# Altium footprint library Jumper.PcbLib: 32 footprints (part 1 of 2)
Each footprint in its own frame and in the unit in brackets; x right, y up, seen from the top. Pads: shape width x height; smd on the part's side, far side on the other; paste and mask are expansions set on the pad; w line width, h text height; cw(c..) or ccw(c..) is an arc to the next point about the centre after c.
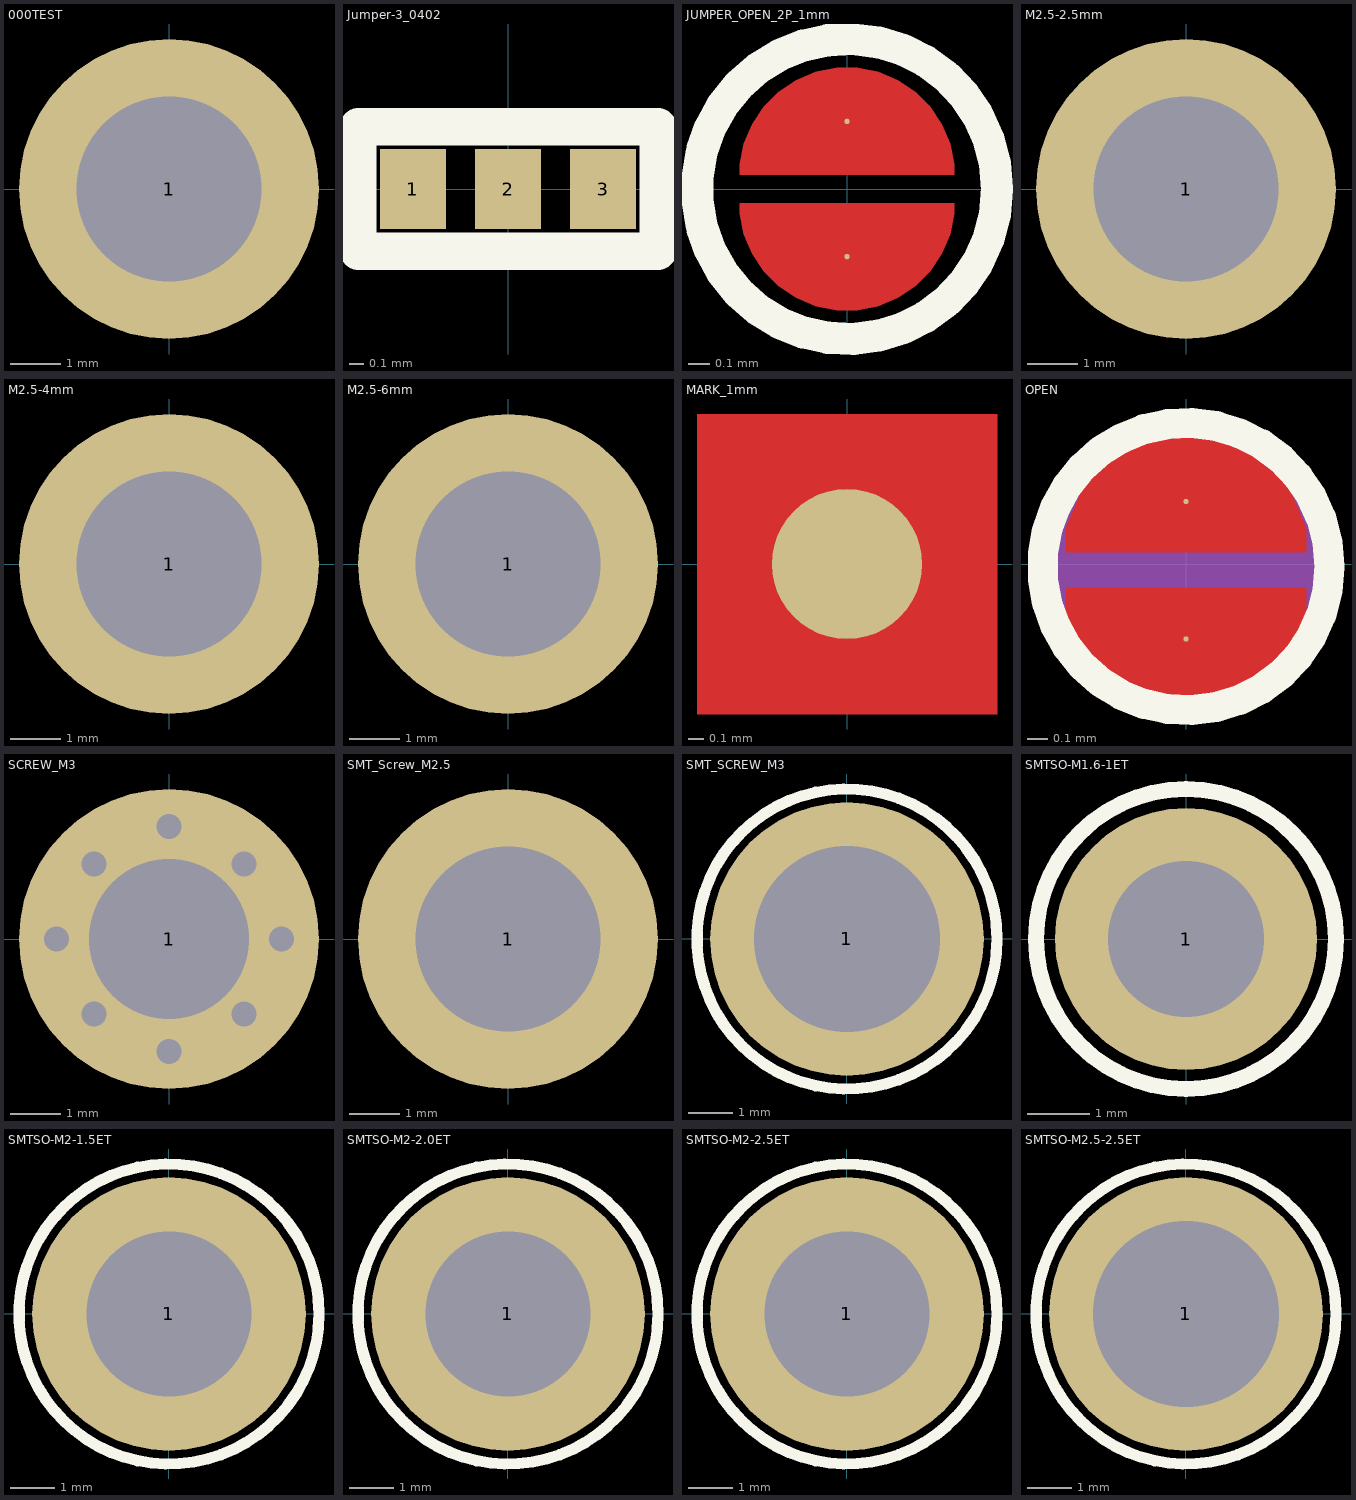
[diagram p0: the footprints below, top view; thin cyan lines are the x and y axes]

## 000TEST [mm]
pads (1):
  round 6 hole 3.7 paste-100: 1(0,0)
Top Paste:
  region: 0.261,-2.938 0.518,-2.916 1.015,-2.782 1.482,-2.564 1.904,-2.268 2.268,-1.904 2.564,-1.482 2.782,-1.015 2.916,-0.518 2.938,-0.261 2.939,-0.261 1.882,-0.261 1.855,-0.413 1.764,-0.706 1.627,-0.981 1.448,-1.231 1.231,-1.448 0.981,-1.627 0.706,-1.764 0.413,-1.855 0.261,-1.882
  region: -0.261,-2.938 -0.518,-2.916 -1.015,-2.782 -1.482,-2.564 -1.904,-2.268 -2.268,-1.904 -2.564,-1.482 -2.782,-1.015 -2.916,-0.518 -2.938,-0.261 -2.939,-0.261 -1.882,-0.261 -1.855,-0.413 -1.764,-0.706 -1.627,-0.981 -1.448,-1.231 -1.231,-1.448 -0.981,-1.627 -0.706,-1.764 -0.413,-1.855 -0.261,-1.882
  region: -0.261,2.938 -0.518,2.916 -1.015,2.782 -1.482,2.564 -1.904,2.268 -2.268,1.904 -2.564,1.482 -2.782,1.015 -2.916,0.518 -2.938,0.261 -2.939,0.261 -1.882,0.261 -1.855,0.413 -1.764,0.706 -1.627,0.981 -1.448,1.231 -1.231,1.448 -0.981,1.627 -0.706,1.764 -0.413,1.855 -0.261,1.882
  region: 0.261,2.938 0.518,2.916 1.015,2.782 1.482,2.564 1.904,2.268 2.268,1.904 2.564,1.482 2.782,1.015 2.916,0.518 2.938,0.261 2.939,0.261 1.882,0.261 1.855,0.413 1.764,0.706 1.627,0.981 1.448,1.231 1.231,1.448 0.981,1.627 0.706,1.764 0.413,1.855 0.261,1.882
  lines w0.025: -2.938,-0.261 ccw(c0,0) -0.261,-2.938 -0.261,-1.882 cw(c0,0) -1.882,-0.261 -2.939,-0.261 ; -2.938,0.261 cw(c0,0) -0.261,2.938 -0.261,1.882 ccw(c0,0) -1.882,0.261 -2.939,0.261 ; 0.261,-2.938 ccw(c0,0) 2.938,-0.261 1.882,-0.261 cw(c0,0) 0.261,-1.882 0.261,-2.939 ; 0.261,1.882 cw(c0,0) 1.882,0.261 2.939,0.261 ccw(c0,0) 0.261,2.938 0.261,1.882

## Jumper-3_0402 [mm]
pads (3):
  rect 0.45x0.55 smd: 1(-0.65,0) 2(0,0) 3(0.65,0)
Top Overlay:
  lines w0.254: -1.025,-0.425 1.025,-0.425 1.025,0.425 -1.025,0.425 -1.025,-0.425

## JUMPER_OPEN_2P_1mm [mil]
pads (2):
  round 1 smd: 1(0,12.42) 2(0,-12.42)
Top Layer:
  region: -19.68,2.58 19.68,2.58 19.68,4.52 18.93,8.32 17.44,11.9 15.29,15.13 12.55,17.87 9.32,20.02 5.74,21.51 1.94,22.26 -1.94,22.26 -5.74,21.51 -9.32,20.02 -12.55,17.87 -15.29,15.13 -17.44,11.9 -18.93,8.32 -19.68,4.52
  region: 19.68,-2.58 -19.68,-2.58 -19.68,-4.52 -18.93,-8.32 -17.44,-11.9 -15.29,-15.13 -12.55,-17.87 -9.32,-20.02 -5.74,-21.51 -1.94,-22.26 1.94,-22.26 5.74,-21.51 9.32,-20.02 12.55,-17.87 15.29,-15.13 17.44,-11.9 18.93,-8.32 19.68,-4.52
Top Overlay:
  circle w5.9: c0,0 r27.56

## M2.5-2.5mm [mm] "SMT Steel Spacer, M2.5 Thread Internal, 6mm"
height 6
pads (1):
  round 6 / inner round 0 / far side round 0 hole 3.7 paste-403.566: 1(0,0)
Top Paste:
  drawing of 4 lines, arcs and shapes, not listed
Mechanical 13:
  circle w0.12: c0,0 r2.55
3D body "M2_5x2_5.stp": height 2.5, standoff -1.4, extent -2.55,-2.6 2.55,2.5

## M2.5-4mm [mm] "SMT Steel Spacer, M2.5 Thread Internal, 4mm"
height 6
pads (1):
  round 6 / inner round 0 / far side round 0 hole 3.7 paste-403.566: 1(0,0)
Top Paste:
  drawing of 4 lines, arcs and shapes, not listed
Mechanical 13:
  circle w0.12: c0,0 r2.55
3D body "9774040151.stp": height 4, standoff -1.4, extent -2.55,-2.545 2.53,2.545

## M2.5-6mm [mm] "SMT Steel Spacer, M2.5 Thread Internal, 6mm"
height 6
pads (1):
  round 6 / inner round 0 / far side round 0 hole 3.7 paste-403.566: 1(0,0)
Top Paste:
  drawing of 4 lines, arcs and shapes, not listed
Mechanical 13:
  circle w0.12: c0,0 r2.55
3D body "9774060151.stp": height 6, standoff -1.4, extent -2.55,-2.545 2.53,2.545

## MARK_1mm [mm]
pads (1):
  round 1 smd mask+0.5: ""(0,0)
Top Layer:
  pour cut-out: -1,-1 1,-1 1,1 -1,1

## OPEN [mil] "OPEN"
pads (2):
  oct 1x1 smd: 1(0,-14.7) 2(0,12.3)
Top Layer:
  region: -23.6,-4.7 23.6,-4.7 23.6,-9.39 20.01,-18.07 13.37,-24.71 4.69,-28.3 -4.69,-28.3 -13.37,-24.71 -20.01,-18.07 -23.6,-9.39
  region: -23.6,-4.7 23.6,-4.7 23.6,-9.39 20.01,-18.07 13.37,-24.71 4.69,-28.3 -4.69,-28.3 -13.37,-24.71 -20.01,-18.07 -23.6,-9.39
  region: 23.6,2.3 -23.6,2.3 -23.6,6.99 -20.01,15.67 -13.37,22.31 -4.69,25.9 4.69,25.9 13.37,22.31 20.01,15.67 23.6,6.99
  region: 23.6,2.3 -23.6,2.3 -23.6,6.99 -20.01,15.67 -13.37,22.31 -4.69,25.9 4.69,25.9 13.37,22.31 20.01,15.67 23.6,6.99
Top Overlay:
  circle w5.9: c0,-0.5 r28.2
Top Paste:
  region: -23.6,-4.7 23.6,-4.7 23.6,-9.39 20.01,-18.07 13.37,-24.71 4.69,-28.3 -4.69,-28.3 -13.37,-24.71 -20.01,-18.07 -23.6,-9.39
  region: -23.6,-4.7 23.6,-4.7 23.6,-9.39 20.01,-18.07 13.37,-24.71 4.69,-28.3 -4.69,-28.3 -13.37,-24.71 -20.01,-18.07 -23.6,-9.39
  region: 23.6,2.3 -23.6,2.3 -23.6,6.99 -20.01,15.67 -13.37,22.31 -4.69,25.9 4.69,25.9 13.37,22.31 20.01,15.67 23.6,6.99
  region: 23.6,2.3 -23.6,2.3 -23.6,6.99 -20.01,15.67 -13.37,22.31 -4.69,25.9 4.69,25.9 13.37,22.31 20.01,15.67 23.6,6.99
Top Solder:
  region: -23.6,-4.7 23.6,-4.7 23.6,-9.39 20.01,-18.07 13.37,-24.71 4.69,-28.3 -4.69,-28.3 -13.37,-24.71 -20.01,-18.07 -23.6,-9.39
  region: -23.6,-4.7 23.6,-4.7 23.6,-9.39 20.01,-18.07 13.37,-24.71 4.69,-28.3 -4.69,-28.3 -13.37,-24.71 -20.01,-18.07 -23.6,-9.39
  region: 23.6,2.3 -23.6,2.3 -23.6,6.99 -20.01,15.67 -13.37,22.31 -4.69,25.9 4.69,25.9 13.37,22.31 20.01,15.67 23.6,6.99
  region: 23.6,2.3 -23.6,2.3 -23.6,6.99 -20.01,15.67 -13.37,22.31 -4.69,25.9 4.69,25.9 13.37,22.31 20.01,15.67 23.6,6.99
Top 3D Body:
  region: 0,29.45 7.62,28.45 14.73,25.51 20.83,20.83 25.51,14.73 28.45,7.62 29.45,0 28.45,-7.62 25.51,-14.73 20.83,-20.83 14.73,-25.51 7.62,-28.45 0,-29.45 -7.62,-28.45 -14.73,-25.51 -20.83,-20.83 -25.51,-14.73 -28.45,-7.62 -29.45,0 -28.45,7.62 -25.51,14.73 -20.83,20.83 -14.73,25.51 -7.62,28.45
Mechanical 19:
  text "2" at 0,6.7 h14
  text "1" at 0,-20.3 h14
Top Assembly:
  dashed: 0,29.45 7.62,28.45 14.73,25.51 20.83,20.83 25.51,14.73 28.45,7.62 29.45,0 28.45,-7.62 25.51,-14.73 20.83,-20.83 14.73,-25.51 7.62,-28.45 0,-29.45 -7.62,-28.45 -14.73,-25.51 -20.83,-20.83 -25.51,-14.73 -28.45,-7.62 -29.45,0 -28.45,7.62 -25.51,14.73 -20.83,20.83 -14.73,25.51 -7.62,28.45
  text ".Designator" at -19.5,-3.34 h10
  text "JM" at -5,-8 h10
3D body: height 150, standoff 0, extent -29.45,-29.45 29.45,29.45

## SCREW_M3 [mm]
pads (1):
  round 6 hole 3.2: 1(0,0)
via -1.5,-1.5 diameter 0.8 hole 0.5
via 1.5,-1.5 diameter 0.8 hole 0.5
via 1.5,1.5 diameter 0.8 hole 0.5
via -1.5,1.5 diameter 0.8 hole 0.5
via -2.25,0 diameter 0.8 hole 0.5
via 0,-2.25 diameter 0.8 hole 0.5
via 0,2.25 diameter 0.8 hole 0.5
via 2.25,0 diameter 0.8 hole 0.5

## SMT_Screw_M2.5 [mm]
pads (1):
  round 6 hole 3.7: 1(0,0)

## SMT_SCREW_M3 [mm] "SMT_SCREW_M3"
pads (1):
  round 6.2 hole 4.22 paste-1: 1(0,0)
Top Overlay:
  circle w0.254: c0,0 r3.4
Top Paste:
  region: -3.038,-0.266 -3.015,-0.532 -2.877,-1.047 -2.651,-1.531 -2.345,-1.968 -1.968,-2.345 -1.531,-2.651 -1.047,-2.877 -0.532,-3.015 -0.266,-3.038 -0.266,-2.144 -0.442,-2.114 -0.784,-2.013 -1.105,-1.856 -1.396,-1.648 -1.648,-1.396 -1.856,-1.105 -2.012,-0.785 -2.114,-0.442 -2.144,-0.266
  region: 0.266,-3.038 0.532,-3.015 1.047,-2.877 1.531,-2.651 1.968,-2.345 2.345,-1.968 2.651,-1.531 2.877,-1.047 3.015,-0.532 3.038,-0.266 2.144,-0.266 2.114,-0.442 2.013,-0.784 1.856,-1.105 1.648,-1.396 1.396,-1.648 1.105,-1.856 0.785,-2.012 0.442,-2.114 0.266,-2.144
  region: -0.266,3.038 -0.532,3.015 -1.047,2.877 -1.531,2.651 -1.968,2.345 -2.345,1.968 -2.651,1.531 -2.877,1.047 -3.015,0.532 -3.038,0.266 -2.144,0.266 -2.114,0.442 -2.013,0.784 -1.856,1.105 -1.648,1.396 -1.396,1.648 -1.105,1.856 -0.785,2.012 -0.442,2.114 -0.266,2.144
  region: 0.266,3.038 0.532,3.015 1.047,2.877 1.531,2.651 1.968,2.345 2.345,1.968 2.651,1.531 2.877,1.047 3.015,0.532 3.038,0.266 2.144,0.266 2.114,0.442 2.013,0.784 1.856,1.105 1.648,1.396 1.396,1.648 1.105,1.856 0.785,2.012 0.442,2.114 0.266,2.144
  lines w0.025: -2.144,-0.266 ccw(c0,0) -0.266,-2.144 -0.266,-3.038 cw(c0,0) -3.038,-0.266 -2.144,-0.266 ; -0.266,2.144 ccw(c0,0) -2.144,0.266 -3.038,0.266 cw(c0,0) -0.266,3.038 -0.266,2.144 ; 0.266,-2.144 0.266,-3.038 ccw(c0,0) 3.038,-0.266 2.144,-0.266 cw(c0,0) 0.266,-2.144 ; 0.266,2.144 0.266,3.038 cw(c0,0) 3.038,0.266 2.144,0.266 ccw(c0,0) 0.266,2.144

## SMTSO-M1.6-1ET [mm] "SMTSO-M2.5-2.5ET"
pads (1):
  round 4.19 hole 2.5 paste-1 mask+0.102: 1(0,0)
Top Overlay:
  circle w0.254: c0,0 r2.4
Top Paste:
  region: 0.2,-1.99 0.2,-1.284 0.201,-1.284 0.302,-1.265 0.496,-1.202 0.678,-1.109 0.844,-0.989 0.988,-0.845 1.108,-0.679 1.201,-0.497 1.264,-0.303 1.284,-0.203 1.99,-0.203 1.972,-0.373 1.88,-0.704 1.733,-1.014 1.535,-1.294 1.292,-1.536 1.011,-1.734 0.701,-1.881 0.371,-1.973
  region: 1.99,0.2 1.284,0.2 1.284,0.201 1.265,0.302 1.202,0.496 1.109,0.678 0.989,0.844 0.845,0.988 0.679,1.108 0.497,1.201 0.303,1.264 0.203,1.284 0.203,1.99 0.373,1.972 0.704,1.88 1.014,1.733 1.294,1.535 1.536,1.292 1.734,1.011 1.881,0.701 1.973,0.371
  region: -0.2,1.99 -0.2,1.284 -0.201,1.284 -0.302,1.265 -0.496,1.202 -0.678,1.109 -0.844,0.989 -0.988,0.845 -1.108,0.679 -1.201,0.497 -1.264,0.303 -1.284,0.203 -1.99,0.203 -1.972,0.373 -1.88,0.704 -1.733,1.014 -1.535,1.294 -1.292,1.536 -1.011,1.734 -0.701,1.881 -0.371,1.973
  region: -1.99,-0.2 -1.284,-0.2 -1.284,-0.201 -1.265,-0.302 -1.202,-0.496 -1.109,-0.678 -0.989,-0.844 -0.845,-0.988 -0.679,-1.108 -0.497,-1.201 -0.303,-1.264 -0.203,-1.284 -0.203,-1.99 -0.373,-1.972 -0.704,-1.88 -1.014,-1.733 -1.294,-1.535 -1.536,-1.292 -1.734,-1.011 -1.881,-0.701 -1.973,-0.371
  lines w0.025: -1.284,-0.201 ccw(c0,0) -0.203,-1.284 -0.203,-1.99 cw(c0,0) -1.99,-0.2 -1.284,-0.2 ; -0.201,1.284 ccw(c0,0) -1.284,0.203 -1.99,0.203 cw(c0,0) -0.2,1.99 -0.2,1.284 ; 0.2,-1.284 0.2,-1.99 ccw(c0,0) 1.99,-0.203 1.284,-0.203 cw(c0,0) 0.201,-1.284 ; 1.284,0.2 1.99,0.2 ccw(c0,0) 0.203,1.99 0.203,1.284 cw(c0,0) 1.284,0.201

## SMTSO-M2-1.5ET [mm] "SMTSO-M2-1.5ET"
pads (1):
  round 6.2 hole 3.73 paste-1: 1(0,0)
Top Overlay:
  circle w0.254: c0,0 r3.4
Top Paste:
  region: -3.038,-0.266 -3.015,-0.532 -2.877,-1.047 -2.651,-1.531 -2.345,-1.968 -1.968,-2.345 -1.531,-2.651 -1.047,-2.877 -0.532,-3.015 -0.266,-3.038 -0.266,-2.144 -0.442,-2.114 -0.784,-2.013 -1.105,-1.856 -1.396,-1.648 -1.648,-1.396 -1.856,-1.105 -2.012,-0.785 -2.114,-0.442 -2.144,-0.266
  region: 0.266,-3.038 0.532,-3.015 1.047,-2.877 1.531,-2.651 1.968,-2.345 2.345,-1.968 2.651,-1.531 2.877,-1.047 3.015,-0.532 3.038,-0.266 2.144,-0.266 2.114,-0.442 2.013,-0.784 1.856,-1.105 1.648,-1.396 1.396,-1.648 1.105,-1.856 0.785,-2.012 0.442,-2.114 0.266,-2.144
  region: -0.266,3.038 -0.532,3.015 -1.047,2.877 -1.531,2.651 -1.968,2.345 -2.345,1.968 -2.651,1.531 -2.877,1.047 -3.015,0.532 -3.038,0.266 -2.144,0.266 -2.114,0.442 -2.013,0.784 -1.856,1.105 -1.648,1.396 -1.396,1.648 -1.105,1.856 -0.785,2.012 -0.442,2.114 -0.266,2.144
  region: 0.266,3.038 0.532,3.015 1.047,2.877 1.531,2.651 1.968,2.345 2.345,1.968 2.651,1.531 2.877,1.047 3.015,0.532 3.038,0.266 2.144,0.266 2.114,0.442 2.013,0.784 1.856,1.105 1.648,1.396 1.396,1.648 1.105,1.856 0.785,2.012 0.442,2.114 0.266,2.144
  lines w0.025: -2.144,-0.266 ccw(c0,0) -0.266,-2.144 -0.266,-3.038 cw(c0,0) -3.038,-0.266 -2.144,-0.266 ; -0.266,2.144 ccw(c0,0) -2.144,0.266 -3.038,0.266 cw(c0,0) -0.266,3.038 -0.266,2.144 ; 0.266,-2.144 0.266,-3.038 ccw(c0,0) 3.038,-0.266 2.144,-0.266 cw(c0,0) 0.266,-2.144 ; 0.266,2.144 0.266,3.038 cw(c0,0) 3.038,0.266 2.144,0.266 ccw(c0,0) 0.266,2.144
3D body: height 1.5, standoff 0, extent -2.78,-2.78 2.78,2.78

## SMTSO-M2-2.0ET [mm] "SMTSO-M2-2.0ET"
pads (1):
  round 6.2 hole 3.73 paste-1: 1(0,0)
Top Overlay:
  circle w0.254: c0,0 r3.4
Top Paste:
  region: 0.266,3.038 0.532,3.015 1.047,2.877 1.531,2.651 1.968,2.345 2.345,1.968 2.651,1.531 2.877,1.047 3.015,0.532 3.038,0.266 2.144,0.266 2.114,0.442 2.013,0.784 1.856,1.105 1.648,1.396 1.396,1.648 1.105,1.856 0.785,2.012 0.442,2.114 0.266,2.144
  region: -0.266,3.038 -0.532,3.015 -1.047,2.877 -1.531,2.651 -1.968,2.345 -2.345,1.968 -2.651,1.531 -2.877,1.047 -3.015,0.532 -3.038,0.266 -2.144,0.266 -2.114,0.442 -2.013,0.784 -1.856,1.105 -1.648,1.396 -1.396,1.648 -1.105,1.856 -0.785,2.012 -0.442,2.114 -0.266,2.144
  region: 0.266,-3.038 0.532,-3.015 1.047,-2.877 1.531,-2.651 1.968,-2.345 2.345,-1.968 2.651,-1.531 2.877,-1.047 3.015,-0.532 3.038,-0.266 2.144,-0.266 2.114,-0.442 2.013,-0.784 1.856,-1.105 1.648,-1.396 1.396,-1.648 1.105,-1.856 0.785,-2.012 0.442,-2.114 0.266,-2.144
  region: -3.038,-0.266 -3.015,-0.532 -2.877,-1.047 -2.651,-1.531 -2.345,-1.968 -1.968,-2.345 -1.531,-2.651 -1.047,-2.877 -0.532,-3.015 -0.266,-3.038 -0.266,-2.144 -0.442,-2.114 -0.784,-2.013 -1.105,-1.856 -1.396,-1.648 -1.648,-1.396 -1.856,-1.105 -2.012,-0.785 -2.114,-0.442 -2.144,-0.266
  lines w0.025: -2.144,-0.266 ccw(c0,0) -0.266,-2.144 -0.266,-3.038 cw(c0,0) -3.038,-0.266 -2.144,-0.266 ; -0.266,2.144 ccw(c0,0) -2.144,0.266 -3.038,0.266 cw(c0,0) -0.266,3.038 -0.266,2.144 ; 0.266,-2.144 0.266,-3.038 ccw(c0,0) 3.038,-0.266 2.144,-0.266 cw(c0,0) 0.266,-2.144 ; 0.266,2.144 0.266,3.038 cw(c0,0) 3.038,0.266 2.144,0.266 ccw(c0,0) 0.266,2.144
3D body: height 2, standoff 0, extent -2.78,-2.78 2.78,2.78

## SMTSO-M2-2.5ET [mm] "SMTSO-M2-2.5ET"
pads (1):
  round 6.2 hole 3.73 paste-1: 1(0,0)
Top Overlay:
  circle w0.254: c0,0 r3.4
Top Paste:
  region: 0.266,3.038 0.532,3.015 1.047,2.877 1.531,2.651 1.968,2.345 2.345,1.968 2.651,1.531 2.877,1.047 3.015,0.532 3.038,0.266 2.144,0.266 2.114,0.442 2.013,0.784 1.856,1.105 1.648,1.396 1.396,1.648 1.105,1.856 0.785,2.012 0.442,2.114 0.266,2.144
  region: -0.266,3.038 -0.532,3.015 -1.047,2.877 -1.531,2.651 -1.968,2.345 -2.345,1.968 -2.651,1.531 -2.877,1.047 -3.015,0.532 -3.038,0.266 -2.144,0.266 -2.114,0.442 -2.013,0.784 -1.856,1.105 -1.648,1.396 -1.396,1.648 -1.105,1.856 -0.785,2.012 -0.442,2.114 -0.266,2.144
  region: 0.266,-3.038 0.532,-3.015 1.047,-2.877 1.531,-2.651 1.968,-2.345 2.345,-1.968 2.651,-1.531 2.877,-1.047 3.015,-0.532 3.038,-0.266 2.144,-0.266 2.114,-0.442 2.013,-0.784 1.856,-1.105 1.648,-1.396 1.396,-1.648 1.105,-1.856 0.785,-2.012 0.442,-2.114 0.266,-2.144
  region: -3.038,-0.266 -3.015,-0.532 -2.877,-1.047 -2.651,-1.531 -2.345,-1.968 -1.968,-2.345 -1.531,-2.651 -1.047,-2.877 -0.532,-3.015 -0.266,-3.038 -0.266,-2.144 -0.442,-2.114 -0.784,-2.013 -1.105,-1.856 -1.396,-1.648 -1.648,-1.396 -1.856,-1.105 -2.012,-0.785 -2.114,-0.442 -2.144,-0.266
  lines w0.025: -2.144,-0.266 ccw(c0,0) -0.266,-2.144 -0.266,-3.038 cw(c0,0) -3.038,-0.266 -2.144,-0.266 ; -0.266,2.144 ccw(c0,0) -2.144,0.266 -3.038,0.266 cw(c0,0) -0.266,3.038 -0.266,2.144 ; 0.266,-2.144 0.266,-3.038 ccw(c0,0) 3.038,-0.266 2.144,-0.266 cw(c0,0) 0.266,-2.144 ; 0.266,2.144 0.266,3.038 cw(c0,0) 3.038,0.266 2.144,0.266 ccw(c0,0) 0.266,2.144
3D body: height 2.5, standoff 0, extent -2.78,-2.777 2.78,2.777

## SMTSO-M2.5-2.5ET [mm] "SMTSO-M2.5-2.5ET"
pads (1):
  round 6.2 hole 4.22 paste-1: 1(0,0)
Top Overlay:
  circle w0.254: c0,0 r3.4
Top Paste:
  region: -3.038,-0.266 -3.015,-0.532 -2.877,-1.047 -2.651,-1.531 -2.345,-1.968 -1.968,-2.345 -1.531,-2.651 -1.047,-2.877 -0.532,-3.015 -0.266,-3.038 -0.266,-2.144 -0.442,-2.114 -0.784,-2.013 -1.105,-1.856 -1.396,-1.648 -1.648,-1.396 -1.856,-1.105 -2.012,-0.785 -2.114,-0.442 -2.144,-0.266
  region: 0.266,-3.038 0.532,-3.015 1.047,-2.877 1.531,-2.651 1.968,-2.345 2.345,-1.968 2.651,-1.531 2.877,-1.047 3.015,-0.532 3.038,-0.266 2.144,-0.266 2.114,-0.442 2.013,-0.784 1.856,-1.105 1.648,-1.396 1.396,-1.648 1.105,-1.856 0.785,-2.012 0.442,-2.114 0.266,-2.144
  region: -0.266,3.038 -0.532,3.015 -1.047,2.877 -1.531,2.651 -1.968,2.345 -2.345,1.968 -2.651,1.531 -2.877,1.047 -3.015,0.532 -3.038,0.266 -2.144,0.266 -2.114,0.442 -2.013,0.784 -1.856,1.105 -1.648,1.396 -1.396,1.648 -1.105,1.856 -0.785,2.012 -0.442,2.114 -0.266,2.144
  region: 0.266,3.038 0.532,3.015 1.047,2.877 1.531,2.651 1.968,2.345 2.345,1.968 2.651,1.531 2.877,1.047 3.015,0.532 3.038,0.266 2.144,0.266 2.114,0.442 2.013,0.784 1.856,1.105 1.648,1.396 1.396,1.648 1.105,1.856 0.785,2.012 0.442,2.114 0.266,2.144
  lines w0.025: -2.144,-0.266 ccw(c0,0) -0.266,-2.144 -0.266,-3.038 cw(c0,0) -3.038,-0.266 -2.144,-0.266 ; -0.266,2.144 ccw(c0,0) -2.144,0.266 -3.038,0.266 cw(c0,0) -0.266,3.038 -0.266,2.144 ; 0.266,-2.144 0.266,-3.038 ccw(c0,0) 3.038,-0.266 2.144,-0.266 cw(c0,0) 0.266,-2.144 ; 0.266,2.144 0.266,3.038 cw(c0,0) 3.038,0.266 2.144,0.266 ccw(c0,0) 0.266,2.144
3D body: height 2.5, standoff 0, extent -2.78,-2.777 2.78,2.777